# EAGLE library part LPC11U14 (library LPC11)
NXP Semiconductors Attention: Pin PIO1_5 is not available in the LQFP48 package, whereas PIO1_31 is not available in the TFBGA48 package! LPC11Uxx microcontrollers <http://ics.nxp.com/products/lpc1000/lpc11xx/> ARM 32-bit Cortex-M0 Microcontroller with MPU CPU clock up to 50MHz Up to 32KByte on-chip Flash ROM with In-System Programming (ISP) and In-Application Programming (IAP) via On-Chip Bootloader Up to 8KByte SRAM Nested Vectored Interrupt Controller Up to 2 SPI controllers USB 2.0 device controller USART with full Modem Interface and RS485 Support and ISO7816-3 support Fast Mode I2C-Bus 4 Timers with 4 capture channels and 13 output channels Watchdog (WDT) Sytem tick timer 10-bit ADC with 8 channels Power Management Unit (PMU) Brownout detection 12MHz internal RC oscillator Serial Wire Debug/Trace port Symbol copied from RH, package adapted to NXP spec (MK)
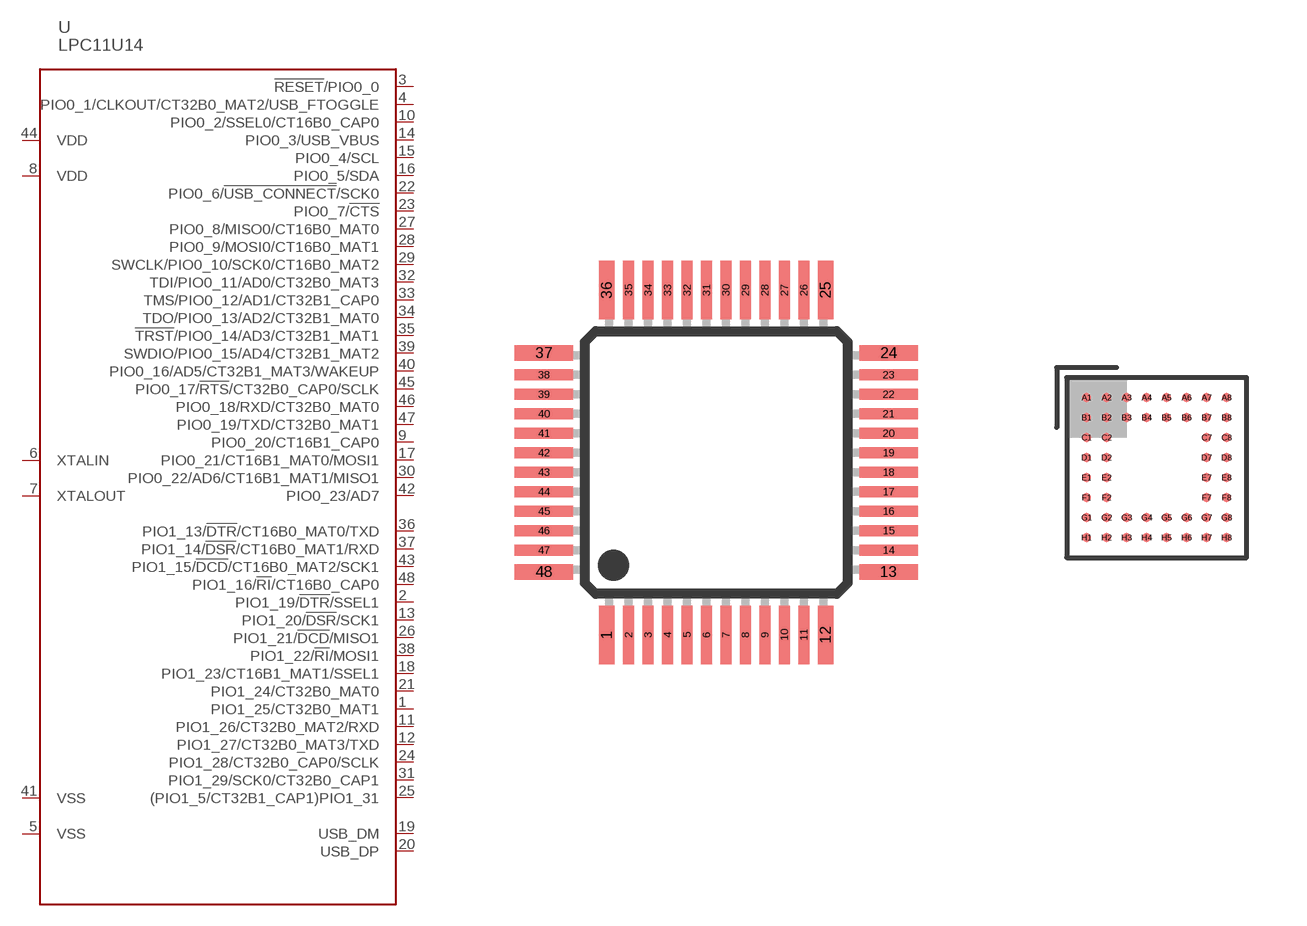
[diagram p0: symbol with the pads of SOT313-2; footprints SOT313-2, SOT1155-2]

Designator prefix U

## LPC11U14FBD  [SOT313-2]
1  PIO1_25/CT32B0_MAT1
2  PIO1_19/!DTR!/SSEL1
3  !RESET!/PIO0_0
4  PIO0_1/CLKOUT/CT32B0_MAT2/USB_FTOGGLE
5  VSS  pwr
6  XTALIN  pas
7  XTALOUT  pas
8  VDD  pwr
9  PIO0_20/CT16B1_CAP0
10  PIO0_2/SSEL0/CT16B0_CAP0
11  PIO1_26/CT32B0_MAT2/RXD
12  PIO1_27/CT32B0_MAT3/TXD
13  PIO1_20/!DSR!/SCK1
14  PIO0_3/USB_VBUS
15  PIO0_4/SCL
16  PIO0_5/SDA
17  PIO0_21/CT16B1_MAT0/MOSI1
18  PIO1_23/CT16B1_MAT1/SSEL1
19  USB_DM
20  USB_DP
21  PIO1_24/CT32B0_MAT0
22  PIO0_6/!USB_CONNECT!/SCK0
23  PIO0_7/!CTS!
24  PIO1_28/CT32B0_CAP0/SCLK
25  (PIO1_5/CT32B1_CAP1)PIO1_31
26  PIO1_21/!DCD!/MISO1
27  PIO0_8/MISO0/CT16B0_MAT0
28  PIO0_9/MOSI0/CT16B0_MAT1
29  SWCLK/PIO0_10/SCK0/CT16B0_MAT2
30  PIO0_22/AD6/CT16B1_MAT1/MISO1
31  PIO1_29/SCK0/CT32B0_CAP1
32  TDI/PIO0_11/AD0/CT32B0_MAT3
33  TMS/PIO0_12/AD1/CT32B1_CAP0
34  TDO/PIO0_13/AD2/CT32B1_MAT0
35  !TRST!/PIO0_14/AD3/CT32B1_MAT1
36  PIO1_13/!DTR!/CT16B0_MAT0/TXD
37  PIO1_14/!DSR!/CT16B0_MAT1/RXD
38  PIO1_22/!RI!/MOSI1
39  SWDIO/PIO0_15/AD4/CT32B1_MAT2
40  PIO0_16/AD5/CT32B1_MAT3/WAKEUP
41  VSS  pwr
42  PIO0_23/AD7
43  PIO1_15/!DCD!/CT16B0_MAT2/SCK1
44  VDD  pwr
45  PIO0_17/!RTS!/CT32B0_CAP0/SCLK
46  PIO0_18/RXD/CT32B0_MAT0
47  PIO0_19/TXD/CT32B0_MAT1
48  PIO1_16/!RI!/CT16B0_CAP0

## LPC11U14FET  [SOT1155-2]
A1  PIO1_25/CT32B0_MAT1
A2  PIO1_16/!RI!/CT16B0_CAP0
A3  PIO0_17/!RTS!/CT32B0_CAP0/SCLK
A4  PIO1_15/!DCD!/CT16B0_MAT2/SCK1
A5  PIO0_23/AD7
A6  PIO0_16/AD5/CT32B1_MAT3/WAKEUP
A7  PIO1_22/!RI!/MOSI1
A8  PIO1_14/!DSR!/CT16B0_MAT1/RXD
B1  PIO1_19/!DTR!/SSEL1
B2  PIO0_19/TXD/CT32B0_MAT1
B3  PIO0_18/RXD/CT32B0_MAT0
B4  VDD  pwr
B5  VSS  pwr
B6  SWDIO/PIO0_15/AD4/CT32B1_MAT2
B7  !TRST!/PIO0_14/AD3/CT32B1_MAT1
B8  PIO1_13/!DTR!/CT16B0_MAT0/TXD
C1  !RESET!/PIO0_0
C2  PIO0_1/CLKOUT/CT32B0_MAT2/USB_FTOGGLE
C7  TMS/PIO0_12/AD1/CT32B1_CAP0
C8  TDO/PIO0_13/AD2/CT32B1_MAT0
D1  XTALIN  pas
D2  VSS  pwr
D7  PIO1_29/SCK0/CT32B0_CAP1
D8  TDI/PIO0_11/AD0/CT32B0_MAT3
E1  XTALOUT  pas
E2  VDD  pwr
E7  SWCLK/PIO0_10/SCK0/CT16B0_MAT2
E8  PIO0_22/AD6/CT16B1_MAT1/MISO1
F1  PIO0_2/SSEL0/CT16B0_CAP0
F2  PIO0_20/CT16B1_CAP0
F7  PIO0_9/MOSI0/CT16B0_MAT1
F8  PIO0_8/MISO0/CT16B0_MAT0
G1  PIO1_27/CT32B0_MAT3/TXD
G2  PIO1_26/CT32B0_MAT2/RXD
G3  PIO0_4/SCL
G4  PIO0_21/CT16B1_MAT0/MOSI1
G5  USB_DM
G6  PIO1_24/CT32B0_MAT0
G7  PIO0_7/!CTS!
G8  PIO1_21/!DCD!/MISO1
H1  PIO1_20/!DSR!/SCK1
H2  PIO0_3/USB_VBUS
H3  PIO0_5/SDA
H4  PIO1_23/CT16B1_MAT1/SSEL1
H5  USB_DP
H6  PIO0_6/!USB_CONNECT!/SCK0
H7  PIO1_28/CT32B0_CAP0/SCLK
H8  (PIO1_5/CT32B1_CAP1)PIO1_31

## Footprint SOT313-2 (pad centres in mm)
SOT313-2 LQFP48: plastic low profile quad flat package; 48 leads; body 7 x 7 x 1.4 mm JEDEC: MS-026 IEC: 136E05 Footprint according to NXP SOT313-2 specification, however the cornerpins are 0.4mm in stead of 0.5mm. Probably an error in the specification.
smd 0.4 x 1.5: 1 -2.81,-4.425; 12 2.81,-4.425; 25 2.81,4.425; 36 -2.81,4.425
smd 0.28 x 1.5: 2 -2.25,-4.425; 3 -1.75,-4.425; 4 -1.25,-4.425; 5 -0.75,-4.425; 6 -0.25,-4.425; 7 0.25,-4.425; 8 0.75,-4.425; 9 1.25,-4.425; 10 1.75,-4.425; 11 2.25,-4.425; 26 2.25,4.425; 27 1.75,4.425; 28 1.25,4.425; 29 0.75,4.425; 30 0.25,4.425; 31 -0.25,4.425; 32 -0.75,4.425; 33 -1.25,4.425; 34 -1.75,4.425; 35 -2.25,4.425
smd 1.5 x 0.4: 13 4.425,-2.81; 24 4.425,2.81; 37 -4.425,2.81; 48 -4.425,-2.81
smd 1.5 x 0.28: 14 4.425,-2.25; 15 4.425,-1.75; 16 4.425,-1.25; 17 4.425,-0.75; 18 4.425,-0.25; 19 4.425,0.25; 20 4.425,0.75; 21 4.425,1.25; 22 4.425,1.75; 23 4.425,2.25; 38 -4.425,2.25; 39 -4.425,1.75; 40 -4.425,1.25; 41 -4.425,0.75; 42 -4.425,0.25; 43 -4.425,-0.25; 44 -4.425,-0.75; 45 -4.425,-1.25; 46 -4.425,-1.75; 47 -4.425,-2.25

## Footprint SOT1155-2 (pad centres in mm)
SOT1155-2 TFBGA48: plastic thin fine-pitch ball grid array package; 48 balls; body 4.5 x 4.5 x 0.7 mm JEDEC: -- IEC: -- JEITA: --
smd 0.225 x 0.225: A1 -1.75,1.75; A2 -1.25,1.75; A3 -0.75,1.75; A4 -0.25,1.75; A5 0.25,1.75; A6 0.75,1.75; A7 1.25,1.75; A8 1.75,1.75; B1 -1.75,1.25; B2 -1.25,1.25; B3 -0.75,1.25; B4 -0.25,1.25; B5 0.25,1.25; B6 0.75,1.25; B7 1.25,1.25; B8 1.75,1.25; C1 -1.75,0.75; C2 -1.25,0.75; C7 1.25,0.75; C8 1.75,0.75; D1 -1.75,0.25; D2 -1.25,0.25; D7 1.25,0.25; D8 1.75,0.25; E1 -1.75,-0.25; E2 -1.25,-0.25; E7 1.25,-0.25; E8 1.75,-0.25; F1 -1.75,-0.75; F2 -1.25,-0.75; F7 1.25,-0.75; F8 1.75,-0.75; G1 -1.75,-1.25; G2 -1.25,-1.25; G3 -0.75,-1.25; G4 -0.25,-1.25; G5 0.25,-1.25; G6 0.75,-1.25; G7 1.25,-1.25; G8 1.75,-1.25; H1 -1.75,-1.75; H2 -1.25,-1.75; H3 -0.75,-1.75; H4 -0.25,-1.75; H5 0.25,-1.75; H6 0.75,-1.75; H7 1.25,-1.75; H8 1.75,-1.75